# Altium footprint library T1.PcbLib: 1 footprints
Each footprint in its own frame and in the unit in brackets; x right, y up, seen from the top. Pads: shape width x height; smd on the part's side, far side on the other; paste and mask are expansions set on the pad; w line width, h text height; cw(c..) or ccw(c..) is an arc to the next point about the centre after c.
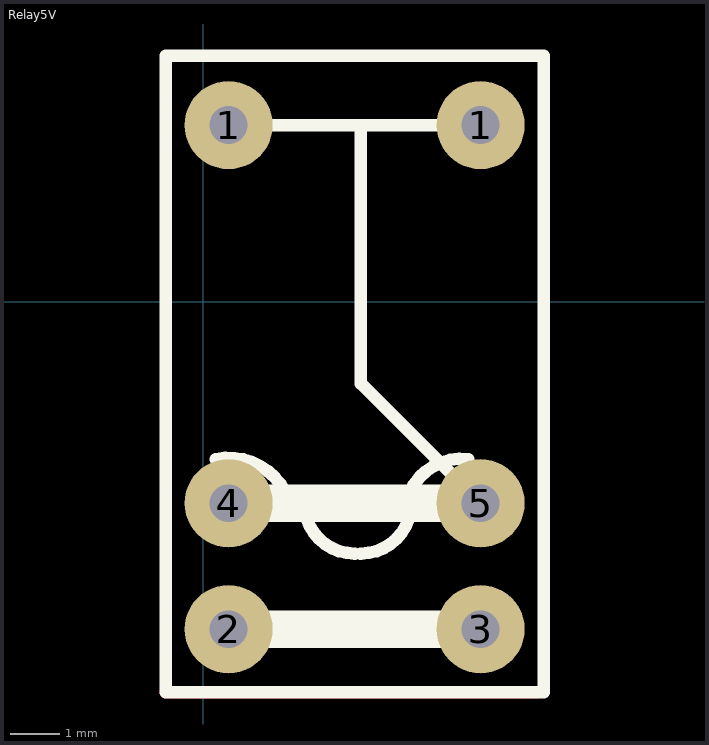
[diagram p0: the footprint, top view; thin cyan lines are the x and y axes]

## Relay5V [mil]
pads (6):
  round 70 hole 30: 1(20,140) 1(220,140) 2(20,-260) 3(220,-260) 4(20,-160) 5(220,-160)
Top Layer:
  lines w10: -30,-310 265,-310
Top Overlay:
  lines w10: 10,-125 cw(c20,-175) 70,-165 ; 20,140 220,140 ; 80,-160 ccw(c120,-160) 120,-200 ; 125,-200 ccw(c125,-160) 165,-160 ; 125,140 125,-65 220,-160 ; 160,-165 cw(c205,-170) 210,-125 ; -30,-310 270,-310 270,195 -30,195 -30,-310
  lines w30: 20,-260 220,-260 ; 20,-160 220,-160